# Altium footprint library usb_uart_converter.PcbLib: 11 footprints
Each footprint in its own frame and in the unit in brackets; x right, y up, seen from the top. Pads: shape width x height; smd on the part's side, far side on the other; paste and mask are expansions set on the pad; w line width, h text height; cw(c..) or ccw(c..) is an arc to the next point about the centre after c.
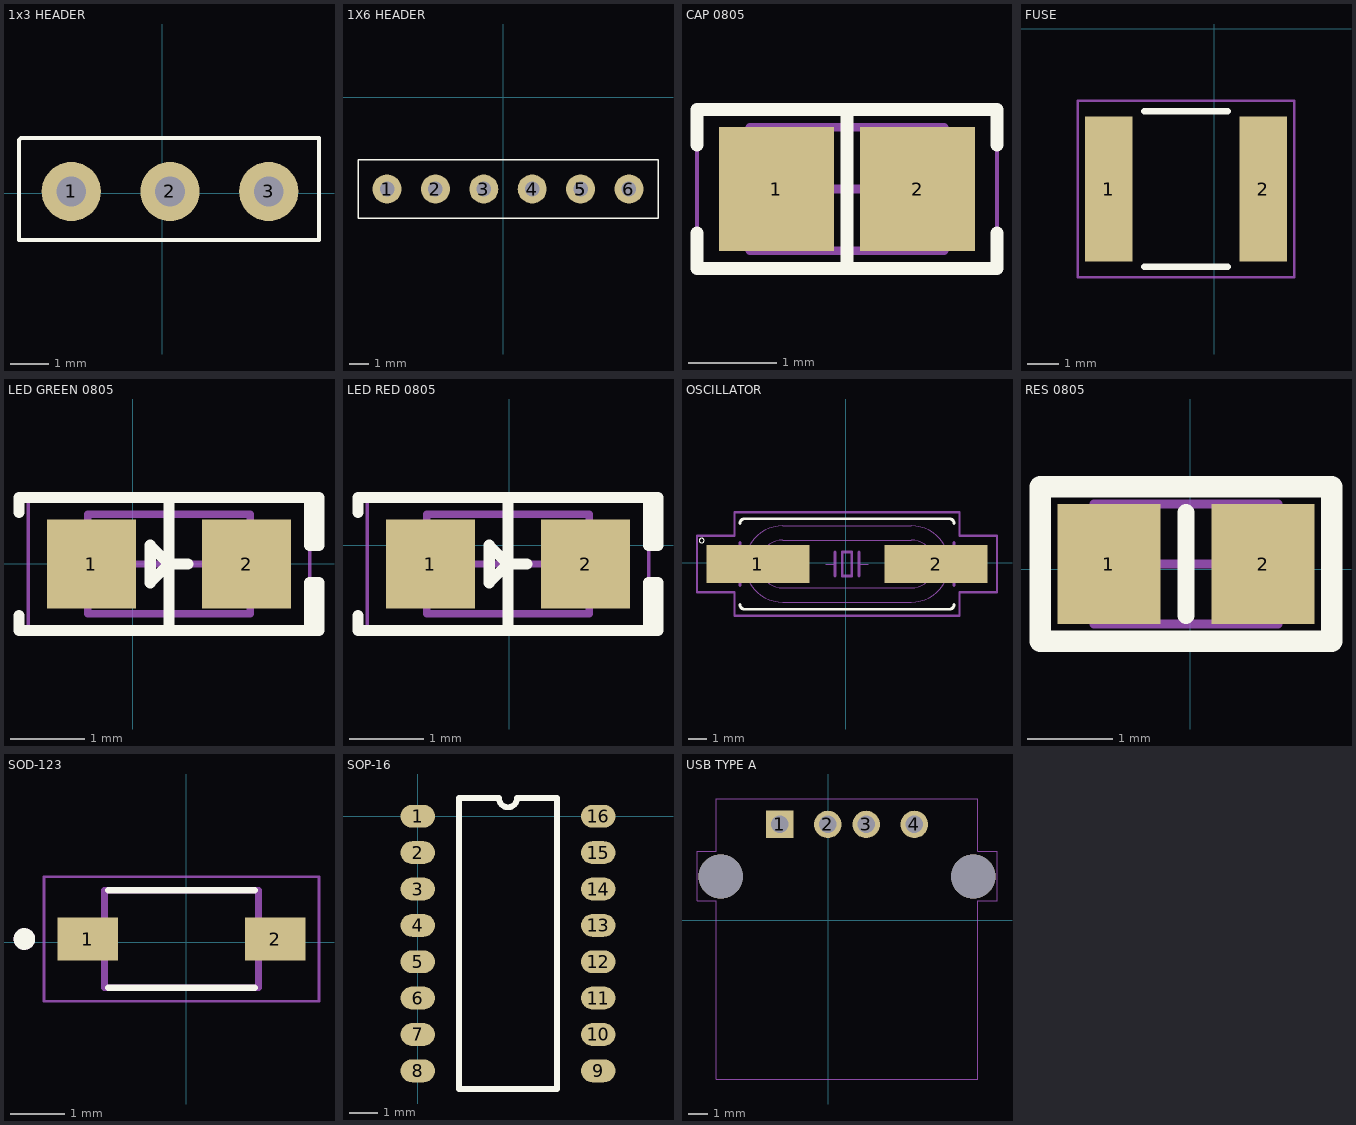
[diagram p0: the footprints below, top view; thin cyan lines are the x and y axes]

## 1x3 HEADER [mil]
pads (3):
  round 60 hole 30: 1(-92.13,1.97) 2(7.87,1.97) 3(107.87,1.97)
Top Overlay:
  lines w3.94: -145.13,-47.03 158.87,-47.03 158.87,55.97 -143.13,55.97 -145.13,53.97 -145.13,-47.03
3D body "User Library-1x3 TH Pitch 2_54mm.STEP": height 362.2, standoff -137.8, extent -142.12,-48.03 157.88,51.97

## 1X6 HEADER [mil]
pads (7):
  round 60 hole 30: 1(-240,-190) 2(-140,-190) 3(-40,-190) 4(60,-190) 5(160,-190) 5(160,-190) 6(260,-190)
Top Overlay:
  lines w2.76: -300,-250 -300,-130 -290,-130 300,-130 320,-130 320,-250 -300,-250
3D body "800-80-006-20-001101.stp": height 128.74, standoff -97.24, extent -294.09,-204.53 305.91,179.53

## CAP 0805 [mm]
pads (2):
  rect 1.3x1.4 smd: 1(-8.282,11.824) 2(-6.682,11.824)
Top Overlay:
  lines w0.15: -9.182,11.324 -9.182,10.924 -5.782,10.924 -5.782,11.324 ; -9.182,12.324 -9.182,12.724 -5.782,12.724 -5.782,12.324 ; -7.482,10.924 -7.482,12.724
Mechanical 13:
  lines w0.1: -8.582,11.124 -8.582,12.524 -6.382,12.524 -6.382,11.124 -8.582,11.124
Mechanical 15:
  lines w0.05: -9.182,10.874 -9.182,12.774 -5.782,12.774 -5.782,10.874 -9.182,10.874
  lines w0.1: -7.982,11.824 -6.982,11.824 ; -7.482,11.324 -7.482,12.324
3D body "0805 cap.STEP": height 1.26, standoff -0.02, extent -8.482,11.187 -6.482,12.461

## FUSE [mm]
pads (2):
  rect 1.5x4.6 smd paste+0 mask+0: 1(-3.339,-5.08) 2(1.561,-5.08)
Top Overlay:
  lines w0.2: -2.214,-7.545 0.436,-7.545 ; -2.214,-2.615 0.436,-2.615
Mechanical 3:
  lines w0.07: -4.318,-7.874 -4.318,-2.286 2.54,-2.286 2.54,-7.874 -4.318,-7.874
3D body "Fuse_Bourns_MF-SMDF050_eec.STEP": height 0.8, standoff 0, extent -3.482,-7.545 1.958,-2.615

## LED GREEN 0805 [mm]
pads (2):
  rect 1.2x1.2 smd: 1(-0.558,0) 2(1.542,0)
Top Overlay:
  lines w0.15: -1.54,-0.7 -1.54,-0.9 2.397,-0.9 ; -1.54,0.7 -1.54,0.9 2.397,0.9 ; 0.492,-0.9 0.492,0.9 ; 0.746,0 0.492,0 ; 0.492,0 0.238,0.254 0.238,-0.254 0.492,0 ; 2.397,-0.9 2.524,-0.9 2.524,-0.254 2.397,-0.254 2.397,-0.9 ; 2.397,0.9 2.524,0.9 2.524,0.254 2.397,0.254 2.397,0.9
Mechanical 13:
  lines w0.1: -0.608,-0.675 -0.608,0.675 1.592,0.675 1.592,-0.675 -0.608,-0.675
Mechanical 15:
  lines w0.05: -1.413,-0.95 -1.413,0.95 2.397,0.95 2.397,-0.95 -1.413,-0.95
  lines w0.1: -0.008,0 0.992,0 ; 0.492,-0.5 0.492,0.5
3D body "everlight-17-21-0805LED-GREEN.step": height 1.08, standoff -0.03, extent -0.476,-0.625 1.524,0.625

## LED RED 0805 [mm]
pads (2):
  rect 1.2x1.2 smd: 1(-1.066,-0.254) 2(1.034,-0.254)
Top Overlay:
  lines w0.15: -2.048,-0.954 -2.048,-1.154 1.889,-1.154 ; -2.048,0.446 -2.048,0.646 1.889,0.646 ; -0.016,-1.154 -0.016,0.646 ; 0.238,-0.254 -0.016,-0.254 ; -0.016,-0.254 -0.27,0 -0.27,-0.508 -0.016,-0.254 ; 1.889,-1.154 2.016,-1.154 2.016,-0.508 1.889,-0.508 1.889,-1.154 ; 1.889,0.646 2.016,0.646 2.016,0 1.889,0 1.889,0.646
Mechanical 13:
  lines w0.1: -1.116,-0.929 -1.116,0.421 1.084,0.421 1.084,-0.929 -1.116,-0.929
Mechanical 15:
  lines w0.05: -1.921,-1.204 -1.921,0.696 1.889,0.696 1.889,-1.204 -1.921,-1.204
  lines w0.1: -0.516,-0.254 0.484,-0.254 ; -0.016,-0.754 -0.016,0.246
3D body "red.step": height 1.1, standoff -0.01, extent -1,-0.879 1,0.371

## OSCILLATOR [mm]
pads (2):
  rect 5.5x2 smd: 1(-4.688,-0.07) 2(4.812,-0.07)
Top Overlay:
  circle w0: c-7.688,1.18 r0.127
  lines w0.152: -5.653,-2.229 ccw(c-5.399,-2.229) -5.399,-2.483 5.523,-2.483 ccw(c5.523,-2.229) 5.777,-2.229 ; -5.653,2.089 cw(c-5.399,2.089) -5.399,2.343 5.523,2.343 cw(c5.523,2.089) 5.777,2.089
Mechanical 13:
  lines w0.051: -1.081,-0.07 -0.573,-0.07 ; 0.697,-0.07 1.205,-0.07 ; -5.052,-1.206 cw(c-3.367,-0.07) -5.052,1.066 cw(c-3.367,-0.07) -3.367,1.962 3.491,1.962 cw(c3.491,-0.07) 5.176,1.066 cw(c3.491,-0.07) 5.176,-1.206 cw(c3.491,-0.07) 3.491,-2.102 -3.367,-2.102 cw(c-3.367,-0.07) -5.052,-1.206 ; -3.924,-1.211 cw(c-3.367,-0.07) -3.924,1.071 cw(c-3.367,-0.07) -3.367,1.2 3.491,1.2 cw(c3.491,-0.07) 4.048,1.071 cw(c3.491,-0.07) 4.048,-1.211 cw(c3.491,-0.07) 3.491,-1.34 -3.367,-1.34 cw(c-3.367,-0.07) -3.924,-1.211
  lines w0.152: -5.653,-1.213 -5.653,1.073 ; -5.653,-0.451 -6.415,-0.451 -6.415,0.311 -5.653,0.311 ; -0.573,-0.705 -0.573,-0.07 -0.573,0.565 ; 0.697,-0.705 0.697,-0.07 0.697,0.565 ; 5.777,-1.213 5.777,-0.451 ; 5.777,1.073 5.777,0.311 ; 5.777,-0.451 6.539,-0.451 6.539,0.311 5.777,0.311 ; 5.777,-0.451 5.777,0.311 ; -0.192,-0.705 0.316,-0.705 0.316,0.565 -0.192,0.565 -0.192,-0.705
Mechanical 15:
  lines w0.127: -7.938,-1.57 -5.938,-1.57 -5.938,-2.82 6.062,-2.82 6.062,-1.57 8.062,-1.57 8.062,1.43 6.062,1.43 6.062,2.68 -5.938,2.68 -5.938,1.43 -7.938,1.43 -7.938,-1.57
3D body "User Library-XTAL-1.step": height 4.31, standoff 0, extent -6.125,-2.375 6.175,2.455

## RES 0805 [mm]
pads (2):
  rect 1.2x1.4 smd: 1(-0.948,0.064) 2(0.852,0.064)
Top Overlay:
  lines w0.2: -0.048,-0.536 -0.048,0.664
  lines w0.254: -1.748,-0.836 -1.748,0.964 1.652,0.964 1.652,-0.836 -1.748,-0.836
Mechanical 13:
  lines w0.1: -1.123,-0.636 1.027,-0.636 1.027,0.764 -1.123,0.764 -1.123,-0.636
Mechanical 15:
  lines w0.1: -0.548,0.064 0.452,0.064 ; -0.048,-0.436 -0.048,0.564 ; -1.798,-0.886 1.702,-0.886 1.702,1.014 -1.798,1.014 -1.798,-0.886
3D body "RESC-0805.stp": height 0.6, standoff 0, extent -1.098,-0.611 1.002,0.739

## SOD-123 [mm]
pads (2):
  rect 1.12x0.8 smd: 1(-1.823,0.06) 2(1.637,0.06)
Top Overlay:
  circle w0.2: c-2.993,0.06 r0.1
  lines w0.127: -1.443,-0.84 1.257,-0.84 ; -1.443,0.96 1.257,0.96
Mechanical 13:
  circle w0.2: c-2.993,0.06 r0.1
  lines w0.127: -1.513,-0.84 -1.513,0.96 1.327,0.96 1.327,-0.84 -1.513,-0.84
Mechanical 15:
  lines w0.05: -2.633,-1.09 2.447,-1.09 2.447,1.21 -2.633,1.21 -2.633,-1.09
3D body "CircuitWorks-SOD123.step": height 1.27, standoff 0, extent -2.025,-0.75 1.675,0.85

## SOP-16 [mm]
pads (16):
  oval 1.2x0.8 smd: 1(0,0) 2(0,-1.27) 3(0,-2.54) 4(0,-3.81) 5(0,-5.08) 6(0,-6.35) 7(0,-7.62) 8(0,-8.89) 9(6.3,-8.89) 10(6.3,-7.62) 11(6.3,-6.35) 12(6.3,-5.08) 13(6.3,-3.81) 14(6.3,-2.54) 15(6.3,-1.27) 16(6.3,0)
Top Overlay:
  lines w0.2: 1.435,-9.525 1.435,0.635 2.832,0.635 ccw(c3.15,0.635) 3.467,0.635 4.865,0.635 4.865,-9.525 1.435,-9.525
3D body "CircuitWorks-SO-16.step": height 1.45, standoff 0, extent 0.275,-9.491 6.18,0.491

## USB TYPE A [mm]
pads (6):
  rect 1.428x1.428 hole 0.92: 1(-2.518,4.996)
  round 1.428 hole 0.92: 2(-0.018,4.996) 3(1.982,4.996) 4(4.482,4.996)
  round 2.3 hole 2.3 unplated: ""(-5.588,2.286) ""(7.552,2.286)
Mechanical 15:
  lines w0.05: -6.818,1.036 -6.818,3.586 -5.818,3.586 -5.818,6.336 7.782,6.336 7.782,3.586 8.782,3.586 8.782,1.036 7.782,1.036 7.782,-8.264 -5.818,-8.264 -5.818,1.036 -6.818,1.036
3D body "USB-A1HSW6--3DModel-STEP-56544.STEP": height 9.56, standoff -1.24, extent -6.91,-8.066 8.89,6.034